# Altium schematic symbol library VGA_SMconnectors.SchLib: 1 symbol
Pins are listed as number, name and electrical type; pins without a type are passive.

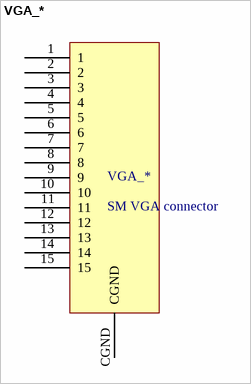
[diagram p0: symbol VGA_*]

## VGA_*
designator VGA_*, comment SM VGA connector
Digikey Part Number: 200-15FA-ND
footprint 15POS SM 30MIL-PITCH (15 position surface mount 30 mils pitch)
pins: 1, 2, 3, 4, 5, 6, 7, 8, 9, 10, 11, 12, 13, 14, 15, CGND